# Altium footprint library DIP254P762X508-8.PcbLib: 1 footprints
Each footprint in its own frame and in the unit in brackets; x right, y up, seen from the top. Pads: shape width x height; smd on the part's side, far side on the other; paste and mask are expansions set on the pad; w line width, h text height; cw(c..) or ccw(c..) is an arc to the next point about the centre after c.
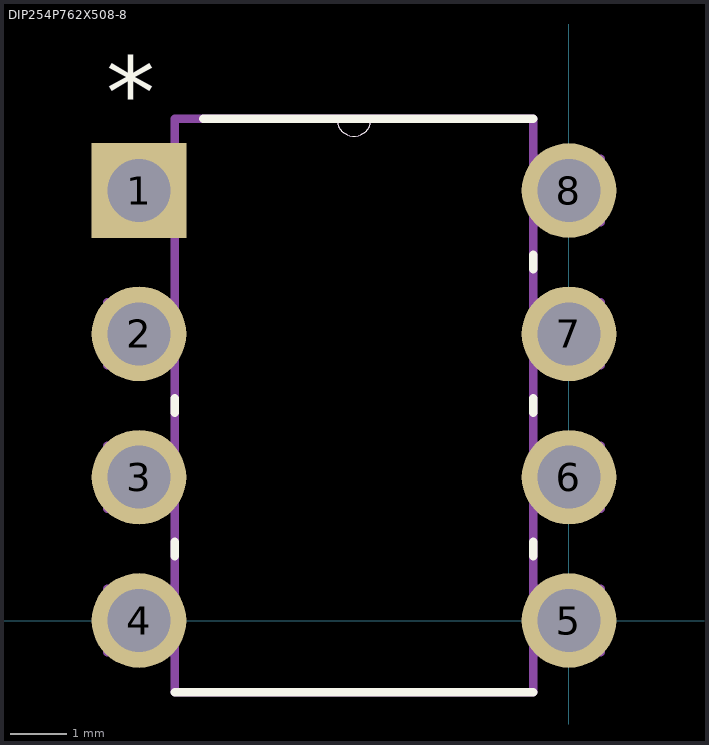
[diagram p0: the footprint, top view; thin cyan lines are the x and y axes]

## DIP254P762X508-8 [mil]
pads (8):
  rect 66x66 / inner round 66 / far side rect 66x66 hole 44: 1(-300,300)
  round 66 hole 44: 2(-300,200) 3(-300,100) 4(-300,0) 5(0,0) 6(0,100) 7(0,200) 8(0,300)
Top Overlay:
  lines w0: -162,350 ccw(c-150,350) -138,350
  lines w6: -275,-50 -25,-50 ; -275,45 -275,55 ; -275,145 -275,155 ; -255,350 -162,350 -138,350 -25,350 ; -25,45 -25,55 ; -25,145 -25,155 ; -25,245 -25,255
  text "*" at -323,344 h50
Mechanical 13:
  lines w0: -162,350 ccw(c-150,350) -138,350
  lines w6: -322,-22 -275,-22 -275,22 -322,22 -322,-22 ; -322,78 -275,78 -275,122 -322,122 -322,78 ; -322,178 -275,178 -275,222 -322,222 -322,178 ; -322,278 -275,278 -275,322 -322,322 -322,278 ; -275,-50 -275,350 -162,350 -138,350 -25,350 -25,-50 -275,-50 ; -25,-22 22,-22 22,22 -25,22 -25,-22 ; -25,78 22,78 22,122 -25,122 -25,78 ; -25,178 22,178 22,222 -25,222 -25,178 ; -25,278 22,278 22,322 -25,322 -25,278
  text "*" at -323,344 h50
3D body "step_temp.STEP": height 200, standoff -125, extent -365,-38.75 65,338.75